# Altium schematic symbol library MLPF-WB55-01E3.SchLib: 1 symbol
Pins are listed as number, name and electrical type; pins without a type are passive.

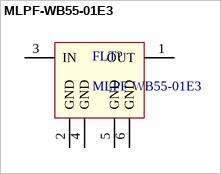
[diagram p0: symbol MLPF-WB55-01E3]

## MLPF-WB55-01E3
designator FLT?
2.4 GHz low pass filter matched to STM32WB55Cx/Rx
footprint Bumpless CSP (1.6x1.0mm)
pins: 1 OUT, 2 GND, 3 IN, 4 GND, 5 GND, 6 GND